# Altium schematic symbol library MM3Z5V6C.SchLib: 1 symbol
Pins are listed as number, name and electrical type; pins without a type are passive.

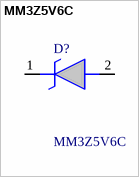
[diagram p0: symbol MM3Z5V6C]

## MM3Z5V6C
designator D?
Wide Zener Voltage Range Selection, 2.4V to 75V; VZ Tolerance Selection of +/-5% (C Series); Very Small and Thin SMD package; Matte Tin(Sn) finish, Pb Free; Manufacturer_Name: onsemi; Geometry.Height: 1mm; Mouser Part Number: 512-MM3Z5V6C; Mouser Price/Stock: https://www.mouser.co.uk/ProductDetail/onsemi-Fairchild/MM3Z5V6C?qs=rXqtSHp76q6mZxise9dftg%3D%3D; Manufacturer_Part_Number: MM3Z5V6C; Datasheet Link: https://www.onsemi.com/pub/Collateral/MM3Z9V1C-D.PDF
footprint SODFL2513X100N
pins: 1 K, 2 A